# Altium footprint library 507_Part_Footprints.PcbLib: 14 footprints
Each footprint in its own frame and in the unit in brackets; x right, y up, seen from the top. Pads: shape width x height; smd on the part's side, far side on the other; paste and mask are expansions set on the pad; w line width, h text height; cw(c..) or ccw(c..) is an arc to the next point about the centre after c.
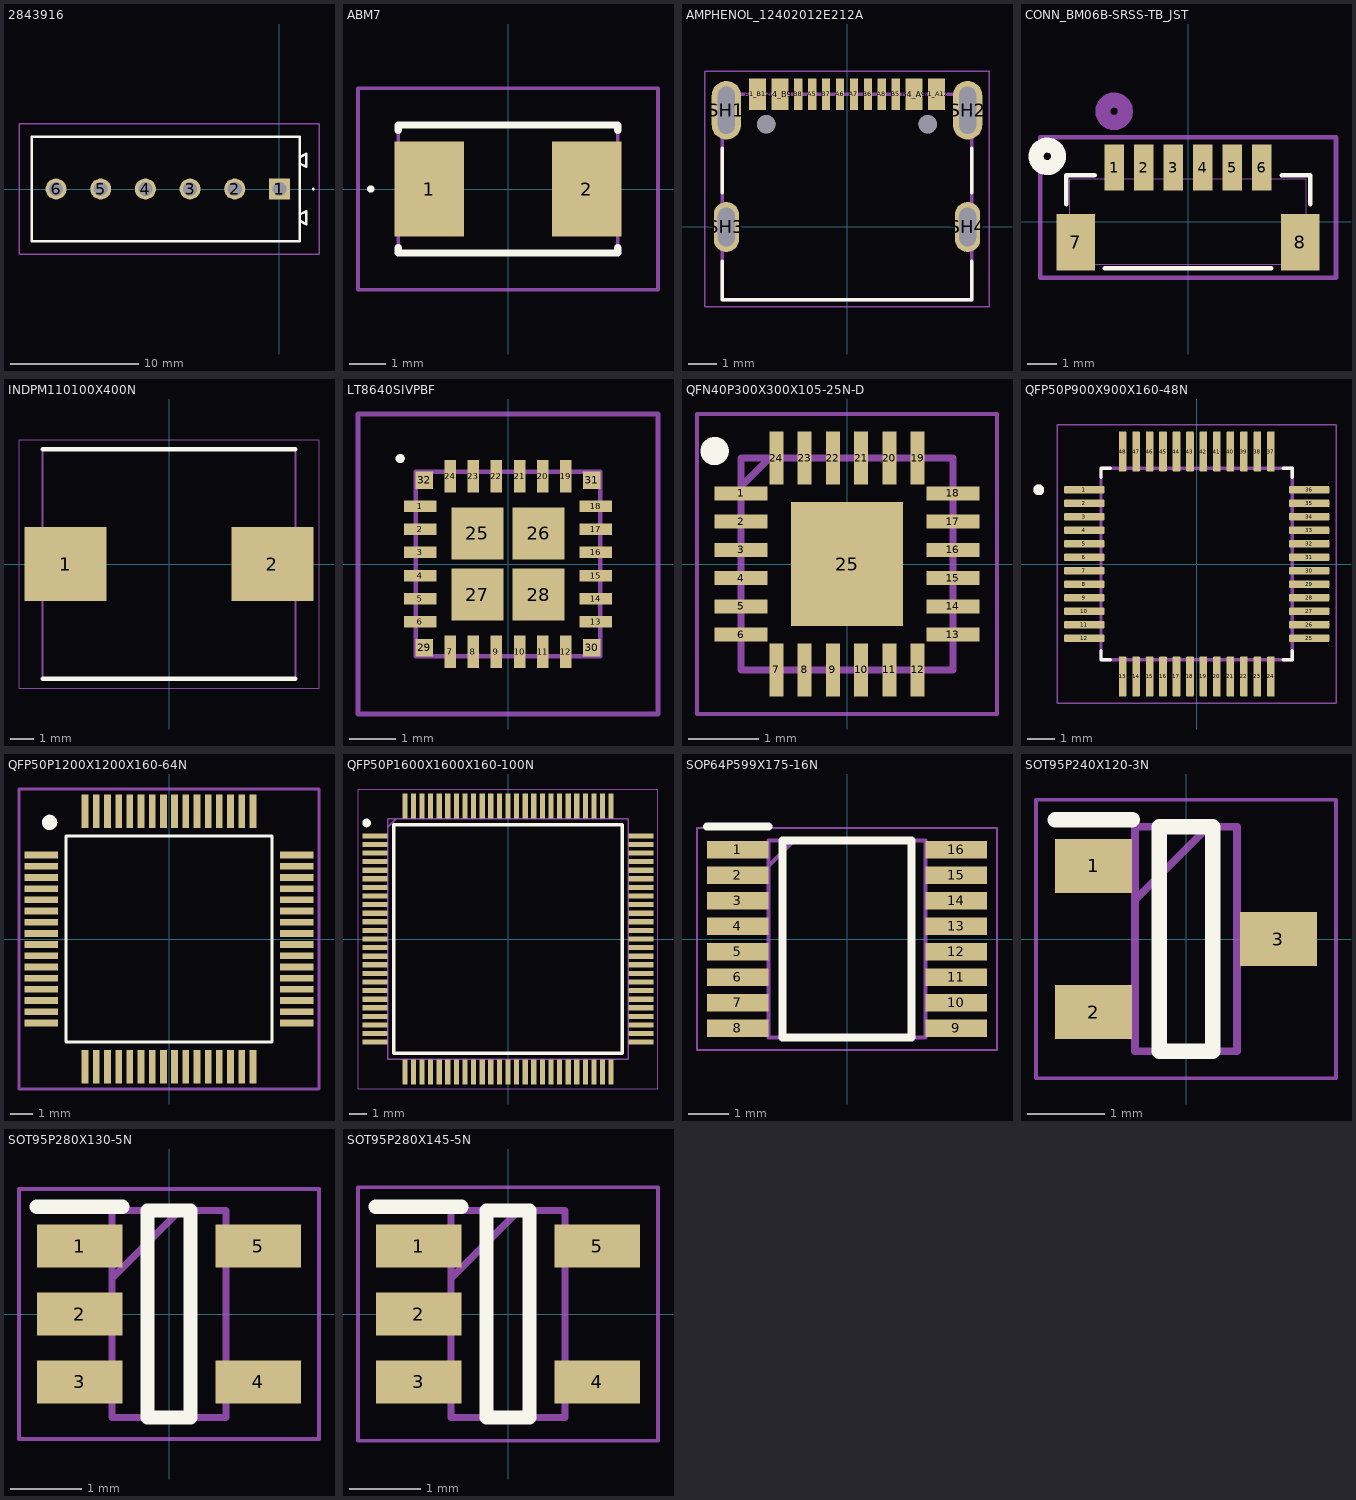
[diagram p0: the footprints below, top view; thin cyan lines are the x and y axes]

## 2843916 [mm]
pads (6):
  rect 1.65x1.65 hole 1.1: 1(0,0)
  round 1.65 hole 1.1: 2(-3.5,0) 3(-7,0) 4(-10.5,0) 5(-14,0) 6(-17.5,0)
Top Overlay:
  lines w0.1: 2.6,0 ccw(c2.65,0) 2.7,0 ccw(c2.65,0) 2.6,0
  lines w0.2: 1.6,-2.5 2.1,-2.75 2.1,-1.75 1.6,-2 ; 1.6,2 2.1,1.75 2.1,2.75 1.6,2.5 ; -19.4,-4.1 1.6,-4.1 1.6,4.1 -19.4,4.1 -19.4,-4.1
Mechanical 13:
  lines w0.1: 1.6,-2.5 2.1,-2.75 2.1,-1.75 1.6,-2 ; 1.6,2 2.1,1.75 2.1,2.75 1.6,2.5 ; -19.4,-4.1 1.6,-4.1 1.6,4.1 -19.4,4.1 -19.4,-4.1
Mechanical 15:
  lines w0.1: -20.4,-5.1 3.1,-5.1 3.1,5.1 -20.4,5.1 -20.4,-5.1
3D body "284391-6.stp": height 13.25, standoff -2.85, extent -19.25,-4.1 2.25,4.1

## ABM7 [mm]
pads (2):
  rect 1.9x2.6 smd: 1(-2.15,0) 2(2.15,0)
Top Overlay:
  lines w0.1: -3.8,0 ccw(c-3.75,0) -3.7,0 ccw(c-3.75,0) -3.8,0
  lines w0.2: -3,-1.6 -3,-1.75 3,-1.75 3,-1.6 ; -3,1.6 -3,1.75 3,1.75 3,1.6
Mechanical 13:
  lines w0.1: -3,-1.75 3,-1.75 3,1.75 -3,1.75 -3,-1.75
Mechanical 15:
  lines w0.1: -4.1,-2.75 4.1,-2.75 4.1,2.75 -4.1,2.75 -4.1,-2.75
3D body "ABM7-8.000MHZ-D2Y-T.stp": height 1.4, standoff 0, extent -3,-1.75 3,1.75

## AMPHENOL_12402012E212A [mm]
pads (18):
  rect 0.6x1.14 smd: A1_B12(-3.2,4.75) A4_B9(-2.4,4.75) B1_A12(3.2,4.75) B4_A9(2.4,4.75)
  rect 0.3x1.14 smd: A5(-1.25,4.75) A6(-0.25,4.75) A7(0.25,4.75) A8(1.25,4.75) B5(1.75,4.75) B6(0.75,4.75) B7(-0.75,4.75) B8(-1.75,4.75)
  oval 1.05x2.1 hole 0.6 slot 1.7 at 90 deg: SH1(-4.32,4.18) SH2(4.32,4.18)
  oval 0.9x1.8 hole 0.6 slot 1.4 at 90 deg: SH3(-4.32,0) SH4(4.32,0)
  round 0.65 hole 0.65 unplated: ""(-2.89,3.68) ""(2.89,3.68)
Top Overlay:
  lines w0.127: -4.47,-1.22 -4.47,-2.6 4.47,-2.6 4.47,-1.22 ; -4.47,1.22 -4.47,2.81 ; 4.47,1.22 4.47,2.81
Mechanical 13:
  lines w0.127: -4.47,-2.6 4.47,-2.6 4.47,4.75 -4.47,4.75 -4.47,-2.6
Mechanical 15:
  lines w0.05: -5.095,-2.85 -5.095,5.57 5.095,5.57 5.095,-2.85 -5.095,-2.85
3D body "step_temp.STEP": height 3.19, standoff -0.97, extent -4.47,-2.667 4.47,4.933

## CONN_BM06B-SRSS-TB_JST [mil]
pads (8):
  rect 26x61 smd paste+0 mask+0: 1(-98.43,72.04) 2(-59.06,72.04) 3(-19.68,72.04) 4(19.68,72.04) 5(59.06,72.04) 6(98.43,72.04)
  rect 51x75 smd paste-37.5 mask-37.5: 7(-149.61,-27.37) 8(149.61,-27.37)
Top Overlay:
  circle w20: c-187.5,87.04 r15
  lines w6: -162.5,23.23 -162.5,62 -124.53,62 ; -111.01,-62 111.01,-62 ; 124.53,62 162.5,62 162.5,23.23
Mechanical 13:
  circle w20: c-98.43,147.04 r15
  lines w1: -157.5,-57 -157.5,57 157.5,57 157.5,-57 -157.5,-57
Mechanical 15:
  lines w6: -197.11,-75 197.11,-75 197.11,112.54 -197.11,112.54 -197.11,-75
3D body "BM06B-SRSS-TB.STEP": height 167.83, standoff 0.5, extent -157.48,-52.56 157.48,89.17

## INDPM110100X400N [mm]
pads (2):
  rect 3.55x3.2 smd: 1(-4.5,0) 2(4.5,0)
Top Overlay:
  lines w0.2: -5.5,-5 5.5,-5 ; -5.5,5 5.5,5
Mechanical 13:
  lines w0.1: -5.5,-5 5.5,-5 5.5,5 -5.5,5 -5.5,-5
Mechanical 15:
  lines w0.05: -6.525,-5.4 6.525,-5.4 6.525,5.4 -6.525,5.4 -6.525,-5.4
3D body "SRP1038CC-4R7M.stp": height 4, standoff 0, extent -5.5,-5 5.5,5

## LT8640SIVPBF [mm]
pads (32):
  rect 0.7x0.25 smd: 1(-1.9,1.25) 2(-1.9,0.75) 3(-1.9,0.25) 4(-1.9,-0.25) 5(-1.9,-0.75) 6(-1.9,-1.25) 13(1.9,-1.25) 14(1.9,-0.75) 15(1.9,-0.25) 16(1.9,0.25) 17(1.9,0.75) 18(1.9,1.25)
  rect 0.25x0.7 smd: 7(-1.25,-1.9) 8(-0.75,-1.9) 9(-0.25,-1.9) 10(0.25,-1.9) 11(0.75,-1.9) 12(1.25,-1.9) 19(1.25,1.9) 20(0.75,1.9) 21(0.25,1.9) 22(-0.25,1.9) 23(-0.75,1.9) 24(-1.25,1.9)
  rect 1.125x1.125 smd: 25(-0.663,0.663) 26(0.663,0.663) 27(-0.663,-0.663) 28(0.663,-0.663)
  rect 0.375x0.375 smd: 29(-1.813,-1.813) 30(1.813,-1.813) 31(1.813,1.813) 32(-1.813,1.813)
Top Overlay:
  lines w0.1: -2.386,2.286 ccw(c-2.336,2.286) -2.286,2.286 ccw(c-2.336,2.286) -2.386,2.286
Mechanical 13:
  lines w0.1: -2,-2 2,-2 2,2 -2,2 -2,-2
Mechanical 15:
  lines w0.1: -3.25,-3.25 3.25,-3.25 3.25,3.25 -3.25,3.25 -3.25,-3.25
3D body "LT8640SIV#PBF.stp": height 0.96, standoff -0.01, extent -2,-2.02 2,1.98

## QFN40P300X300X105-25N-D [mm]
pads (25):
  rect 0.75x0.2 smd: 1(-1.5,1) 2(-1.5,0.6) 3(-1.5,0.2) 4(-1.5,-0.2) 5(-1.5,-0.6) 6(-1.5,-1) 13(1.5,-1) 14(1.5,-0.6) 15(1.5,-0.2) 16(1.5,0.2) 17(1.5,0.6) 18(1.5,1)
  rect 0.2x0.75 smd: 7(-1,-1.5) 8(-0.6,-1.5) 9(-0.2,-1.5) 10(0.2,-1.5) 11(0.6,-1.5) 12(1,-1.5) 19(1,1.5) 20(0.6,1.5) 21(0.2,1.5) 22(-0.2,1.5) 23(-0.6,1.5) 24(-1,1.5)
  rect 1.59x1.75 smd: 25(0,0)
Top Overlay:
  circle w0.2: c-1.875,1.6 r0.1
Mechanical 13:
  lines w0.1: -1.5,1.1 -1.1,1.5 ; -1.5,-1.5 -1.5,1.5 1.5,1.5 1.5,-1.5 -1.5,-1.5
Mechanical 15:
  lines w0.05: -2.125,-2.125 -2.125,2.125 2.125,2.125 2.125,-2.125 -2.125,-2.125
3D body "ICM-20948.stp": height 0.98, standoff -0.02, extent -1.5,-1.5 1.5,1.5

## QFP50P900X900X160-48N [mm]
pads (48):
  rrect25% 1.49x0.28 smd: 1(-4.17,2.75) 2(-4.17,2.25) 3(-4.17,1.75) 4(-4.17,1.25) 5(-4.17,0.75) 6(-4.17,0.25) 7(-4.17,-0.25) 8(-4.17,-0.75) 9(-4.17,-1.25) 10(-4.17,-1.75) 11(-4.17,-2.25) 12(-4.17,-2.75) 25(4.17,-2.75) 26(4.17,-2.25) 27(4.17,-1.75) 28(4.17,-1.25) 29(4.17,-0.75) 30(4.17,-0.25) 31(4.17,0.25) 32(4.17,0.75) 33(4.17,1.25) 34(4.17,1.75) 35(4.17,2.25) 36(4.17,2.75)
  rrect25% 0.28x1.49 smd: 13(-2.75,-4.17) 14(-2.25,-4.17) 15(-1.75,-4.17) 16(-1.25,-4.17) 17(-0.75,-4.17) 18(-0.25,-4.17) 19(0.25,-4.17) 20(0.75,-4.17) 21(1.25,-4.17) 22(1.75,-4.17) 23(2.25,-4.17) 24(2.75,-4.17) 37(2.75,4.17) 38(2.25,4.17) 39(1.75,4.17) 40(1.25,4.17) 41(0.75,4.17) 42(0.25,4.17) 43(-0.25,4.17) 44(-0.75,4.17) 45(-1.25,4.17) 46(-1.75,4.17) 47(-2.25,4.17) 48(-2.75,4.17)
Top Overlay:
  circle w0.2: c-5.86,2.75 r0.1
  lines w0.127: -3.55,-3.21 -3.55,-3.55 -3.21,-3.55 ; -3.55,3.21 -3.55,3.55 -3.21,3.55 ; 3.21,-3.55 3.55,-3.55 3.55,-3.21 ; 3.21,3.55 3.55,3.55 3.55,3.21
Mechanical 13:
  circle w0.2: c-5.86,2.75 r0.1
  lines w0.127: -3.55,-3.55 3.55,-3.55 3.55,3.55 -3.55,3.55 -3.55,-3.55
Mechanical 15:
  lines w0.05: -5.165,-5.165 5.165,-5.165 5.165,5.165 -5.165,5.165 -5.165,-5.165
3D body "step_temp.STEP": height 0.72, standoff -0.87, extent -4.5,-4.5 4.5,4.5

## QFP50P1200X1200X160-64N [mm]
pads (64):
  rect 1.5x0.3 smd: 1(-5.7,3.75) 2(-5.7,3.25) 3(-5.7,2.75) 4(-5.7,2.25) 5(-5.7,1.75) 6(-5.7,1.25) 7(-5.7,0.75) 8(-5.7,0.25) 9(-5.7,-0.25) 10(-5.7,-0.75) 11(-5.7,-1.25) 12(-5.7,-1.75) 13(-5.7,-2.25) 14(-5.7,-2.75) 15(-5.7,-3.25) 16(-5.7,-3.75) 33(5.7,-3.75) 34(5.7,-3.25) 35(5.7,-2.75) 36(5.7,-2.25) 37(5.7,-1.75) 38(5.7,-1.25) 39(5.7,-0.75) 40(5.7,-0.25) 41(5.7,0.25) 42(5.7,0.75) 43(5.7,1.25) 44(5.7,1.75) 45(5.7,2.25) 46(5.7,2.75) 47(5.7,3.25) 48(5.7,3.75)
  rect 0.3x1.5 smd: 17(-3.75,-5.7) 18(-3.25,-5.7) 19(-2.75,-5.7) 20(-2.25,-5.7) 21(-1.75,-5.7) 22(-1.25,-5.7) 23(-0.75,-5.7) 24(-0.25,-5.7) 25(0.25,-5.7) 26(0.75,-5.7) 27(1.25,-5.7) 28(1.75,-5.7) 29(2.25,-5.7) 30(2.75,-5.7) 31(3.25,-5.7) 32(3.75,-5.7) 49(3.75,5.7) 50(3.25,5.7) 51(2.75,5.7) 52(2.25,5.7) 53(1.75,5.7) 54(1.25,5.7) 55(0.75,5.7) 56(0.25,5.7) 57(-0.25,5.7) 58(-0.75,5.7) 59(-1.25,5.7) 60(-1.75,5.7) 61(-2.25,5.7) 62(-2.75,5.7) 63(-3.25,5.7) 64(-3.75,5.7)
Top Overlay:
  circle w0.127: c-5.434,5.207 r0.1
  circle w0.127: c-5.334,5.207 r0.1
  circle w0.127: c-5.334,5.207 r0.141
  circle w0.127: c-5.334,5.207 r0.224
  circle w0.127: c-5.334,5.207 r0.283
  lines w0.127: -4.6,-4.6 -4.6,4.6 4.6,4.6 4.6,-4.6 -4.6,-4.6
Mechanical 15:
  lines w0.127: -6.7,-6.7 -6.7,6.7 6.7,6.7 6.7,-6.7 -6.7,-6.7
3D body "step_temp.STEP": height 1.6, standoff 0, extent -6,-6 6,6

## QFP50P1600X1600X160-100N [mm]
pads (100):
  rect 1.475x0.3 smd: 1(-7.738,6) 2(-7.738,5.5) 3(-7.738,5) 4(-7.738,4.5) 5(-7.738,4) 6(-7.738,3.5) 7(-7.738,3) 8(-7.738,2.5) 9(-7.738,2) 10(-7.738,1.5) 11(-7.738,1) 12(-7.738,0.5) 13(-7.738,0) 14(-7.738,-0.5) 15(-7.738,-1) 16(-7.738,-1.5) 17(-7.738,-2) 18(-7.738,-2.5) 19(-7.738,-3) 20(-7.738,-3.5) 21(-7.738,-4) 22(-7.738,-4.5) 23(-7.738,-5) 24(-7.738,-5.5) 25(-7.738,-6) 51(7.738,-6) 52(7.738,-5.5) 53(7.738,-5) 54(7.738,-4.5) 55(7.738,-4) 56(7.738,-3.5) 57(7.738,-3) 58(7.738,-2.5) 59(7.738,-2) 60(7.738,-1.5) 61(7.738,-1) 62(7.738,-0.5) 63(7.738,0) 64(7.738,0.5) 65(7.738,1) 66(7.738,1.5) 67(7.738,2) 68(7.738,2.5) 69(7.738,3) 70(7.738,3.5) 71(7.738,4) 72(7.738,4.5) 73(7.738,5) 74(7.738,5.5) 75(7.738,6)
  rect 0.3x1.475 smd: 26(-6,-7.738) 27(-5.5,-7.738) 28(-5,-7.738) 29(-4.5,-7.738) 30(-4,-7.738) 31(-3.5,-7.738) 32(-3,-7.738) 33(-2.5,-7.738) 34(-2,-7.738) 35(-1.5,-7.738) 36(-1,-7.738) 37(-0.5,-7.738) 38(0,-7.738) 39(0.5,-7.738) 40(1,-7.738) 41(1.5,-7.738) 42(2,-7.738) 43(2.5,-7.738) 44(3,-7.738) 45(3.5,-7.738) 46(4,-7.738) 47(4.5,-7.738) 48(5,-7.738) 49(5.5,-7.738) 50(6,-7.738) 76(6,7.738) 77(5.5,7.738) 78(5,7.738) 79(4.5,7.738) 80(4,7.738) 81(3.5,7.738) 82(3,7.738) 83(2.5,7.738) 84(2,7.738) 85(1.5,7.738) 86(1,7.738) 87(0.5,7.738) 88(0,7.738) 89(-0.5,7.738) 90(-1,7.738) 91(-1.5,7.738) 92(-2,7.738) 93(-2.5,7.738) 94(-3,7.738) 95(-3.5,7.738) 96(-4,7.738) 97(-4.5,7.738) 98(-5,7.738) 99(-5.5,7.738) 100(-6,7.738)
Top Overlay:
  circle w0.25: c-8.225,6.75 r0.125
  lines w0.2: -6.65,-6.65 -6.65,6.65 6.65,6.65 6.65,-6.65 -6.65,-6.65
Mechanical 13:
  lines w0.1: -7,6.5 -6.5,7 ; -7,-7 -7,7 7,7 7,-7 -7,-7
Mechanical 15:
  lines w0.05: -8.725,-8.725 -8.725,8.725 8.725,8.725 8.725,-8.725 -8.725,-8.725
3D body "STM32H7R3V8T6.stp": height 1.56, standoff -0.04, extent -8,-8 8,8

## SOP64P599X175-16N [mm]
pads (16):
  rect 1.526x0.435 smd: 1(-2.712,2.222) 2(-2.712,1.588) 3(-2.712,0.952) 4(-2.712,0.318) 5(-2.712,-0.318) 6(-2.712,-0.952) 7(-2.712,-1.588) 8(-2.712,-2.222) 9(2.712,-2.222) 10(2.712,-1.588) 11(2.712,-0.952) 12(2.712,-0.318) 13(2.712,0.318) 14(2.712,0.952) 15(2.712,1.588) 16(2.712,2.222)
Top Overlay:
  lines w0.2: -3.475,2.79 -1.95,2.79 ; -1.6,-2.451 -1.6,2.451 1.6,2.451 1.6,-2.451 -1.6,-2.451
Mechanical 13:
  lines w0.1: -1.95,1.816 -1.314,2.451 ; -1.95,-2.451 -1.95,2.451 1.95,2.451 1.95,-2.451 -1.95,-2.451
Mechanical 15:
  lines w0.05: -3.725,-2.752 -3.725,2.752 3.725,2.752 3.725,-2.752 -3.725,-2.752
3D body "FT230XS-R.stp": height 1.75, standoff 0, extent -2.997,-2.451 2.997,2.451

## SOT95P240X120-3N [mm]
pads (3):
  rect 1x0.7 smd: 1(-1.2,0.95) 2(-1.2,-0.95) 3(1.2,0)
Top Overlay:
  lines w0.2: -1.7,1.55 -0.7,1.55 ; -0.35,-1.46 0.35,-1.46 0.35,1.46 -0.35,1.46 -0.35,-1.46
Mechanical 13:
  lines w0.1: -0.662,0.51 0.288,1.46 ; -0.662,-1.46 0.662,-1.46 0.662,1.46 -0.662,1.46 -0.662,-1.46
Mechanical 15:
  lines w0.05: -1.95,-1.81 1.95,-1.81 1.95,1.81 -1.95,1.81 -1.95,-1.81
3D body "BSS138.stp": height 1.2, standoff 0, extent -1.2,-1.46 1.2,1.46

## SOT95P280X130-5N [mm]
pads (5):
  rect 1.2x0.6 smd: 1(-1.25,0.95) 2(-1.25,0) 3(-1.25,-0.95) 4(1.25,-0.95) 5(1.25,0.95)
Top Overlay:
  lines w0.2: -1.85,1.5 -0.65,1.5 ; -0.3,-1.45 0.3,-1.45 0.3,1.45 -0.3,1.45 -0.3,-1.45
Mechanical 13:
  lines w0.1: -0.8,0.5 0.15,1.45 ; -0.8,-1.45 0.8,-1.45 0.8,1.45 -0.8,1.45 -0.8,-1.45
Mechanical 15:
  lines w0.05: -2.1,-1.75 2.1,-1.75 2.1,1.75 -2.1,1.75 -2.1,-1.75
3D body "MIC5225-1.8YM5-TR.stp": height 1.3, standoff 0, extent -1.4,-1.45 1.4,1.45

## SOT95P280X145-5N [mm]
pads (5):
  rect 1.2x0.6 smd: 1(-1.25,0.95) 2(-1.25,0) 3(-1.25,-0.95) 4(1.25,-0.95) 5(1.25,0.95)
Top Overlay:
  lines w0.2: -1.85,1.5 -0.65,1.5 ; -0.3,-1.45 -0.3,1.45 0.3,1.45 0.3,-1.45 -0.3,-1.45
Mechanical 13:
  lines w0.1: -0.8,0.5 0.15,1.45 ; -0.8,-1.45 -0.8,1.45 0.8,1.45 0.8,-1.45 -0.8,-1.45
Mechanical 15:
  lines w0.05: -2.1,-1.775 -2.1,1.775 2.1,1.775 2.1,-1.775 -2.1,-1.775
3D body "TLV7031DBVR.stp": height 1.2, standoff 0, extent -1.4,-1.45 1.4,1.45